# Altium footprint library WePcbLib.PcbLib: 177 footprints (part 9 of 12)
Each footprint in its own frame and in the unit in brackets; x right, y up, seen from the top. Pads: shape width x height; smd on the part's side, far side on the other; paste and mask are expansions set on the pad; w line width, h text height; cw(c..) or ccw(c..) is an arc to the next point about the centre after c.
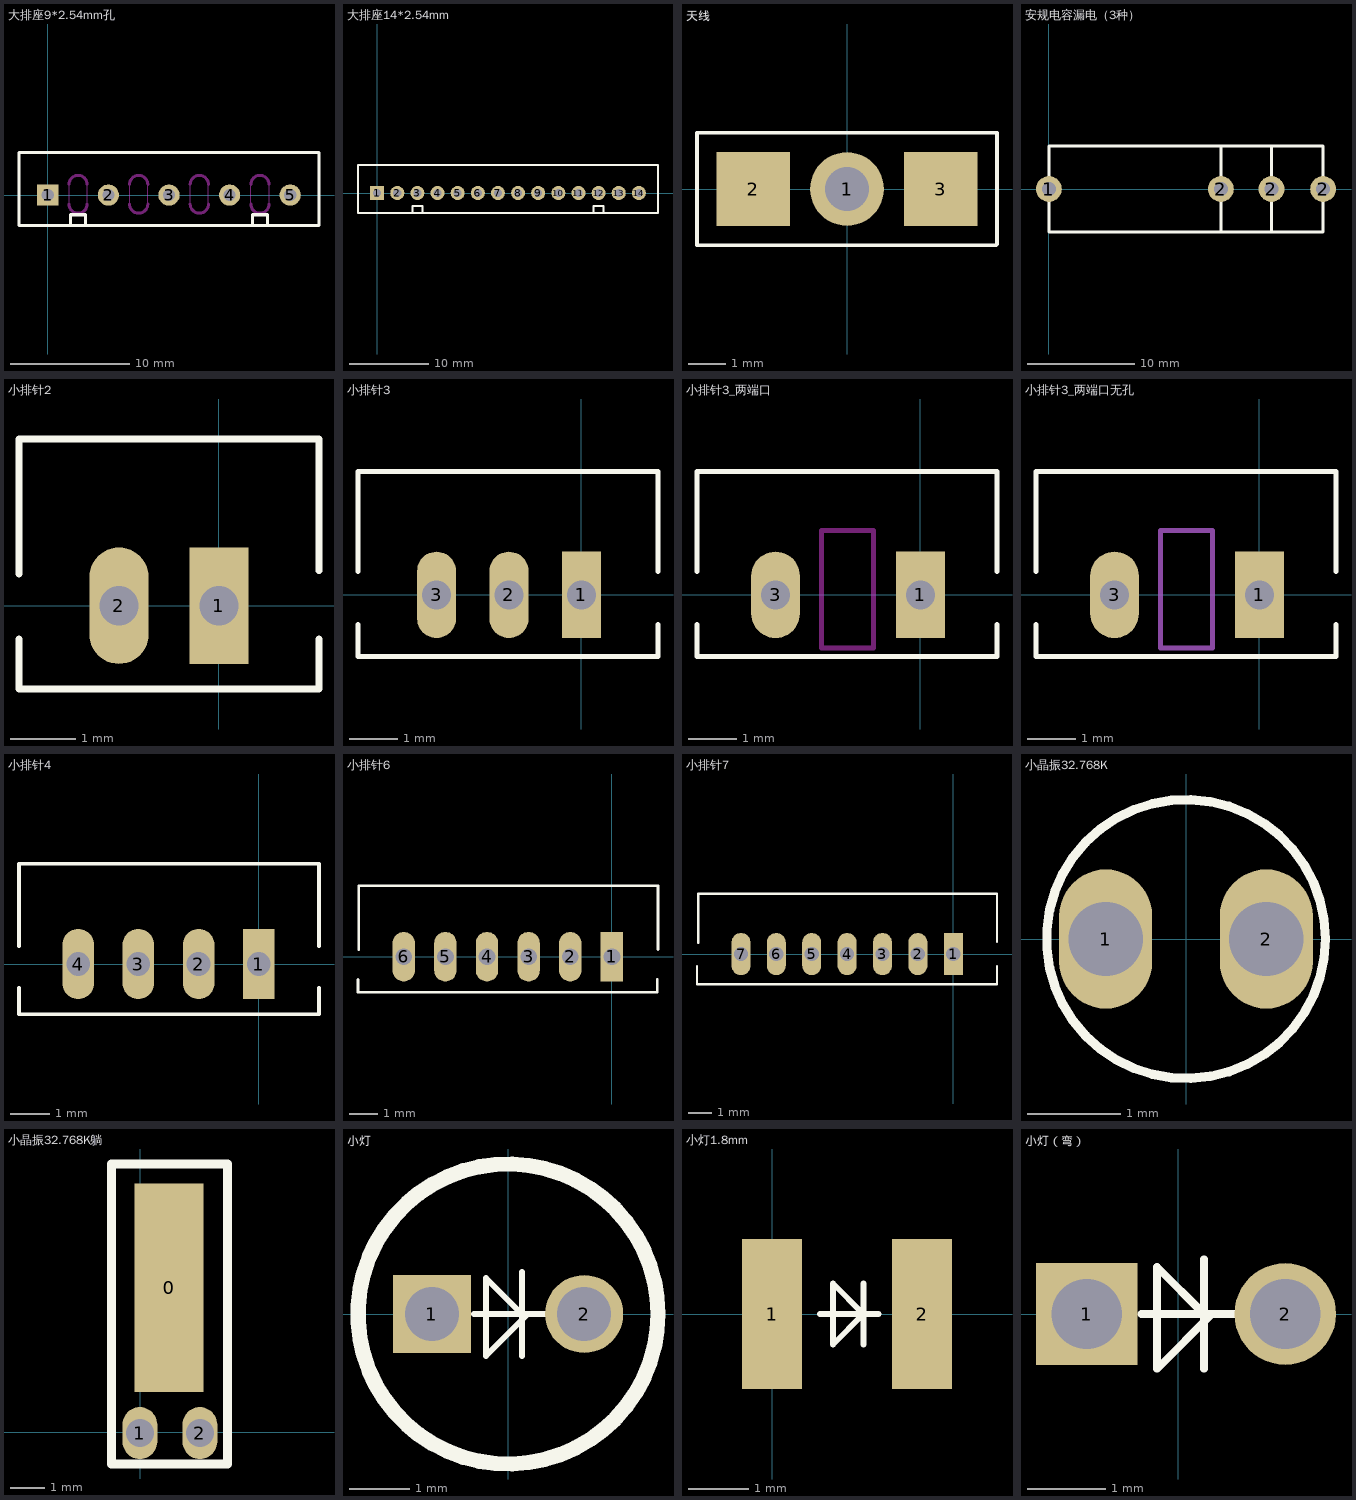
[diagram p8: the footprints below, top view; thin cyan lines are the x and y axes]

## 大排座9*2.54mm孔 [mil]
pads (5):
  rect 70x70 hole 40: 1(0,0)
  round 70 hole 40: 2(200,0) 3(400,0) 4(600,0) 5(800,0)
Top Overlay:
  lines w10: 75,-95 75,-75 75,-65 125,-65 125,-95 ; 675,-100 675,-65 725,-65 725,-100 ; -95,-100 895,-100 895,140 -95,140 -95,-100
Keep-Out Layer:
  lines w4: 70,-30 70,35 ; 130,-30 130,35 ; 270,-30 270,35 ; 330,-30 330,35 ; 470,-30 470,35 ; 530,-30 530,35 ; 670,-30 670,35 ; 730,-30 730,35
  lines w10: 70,-30 ccw(c100,-30) 130,-30 ; 70,35 cw(c100,35) 130,35 ; 270,-30 ccw(c300,-30) 330,-30 ; 270,35 cw(c300,35) 330,35 ; 470,-30 ccw(c500,-30) 530,-30 ; 470,35 cw(c500,35) 530,35 ; 670,-30 ccw(c700,-30) 730,-30 ; 670,35 cw(c700,35) 730,35

## 大排座14*2.54mm [mil]
pads (14):
  rect 70x70 hole 40: 1(0,0)
  round 70 hole 40: 2(100,0) 3(200,0) 4(300,0) 5(400,0) 6(500,0) 7(600,0) 8(700,0) 9(800,0) 10(900,0) 11(1000,0) 12(1100,0) 13(1200,0) 14(1300,0)
Top Overlay:
  lines w10: 175,-100 175,-65 225,-65 225,-100 ; 1075,-100 1075,-65 1125,-65 1125,-100 ; -95,-100 1395,-100 1395,140 -95,140 -95,-100

## 天线 [mm]
pads (3):
  round 2 hole 1.2: 1(0,0)
  rect 2x2 smd: 2(-2.54,0) 3(2.54,0)
Top Overlay:
  lines w0.1: -4.064,-1.524 4.039,-1.524 4.064,-1.499 4.064,1.524 -4.064,1.524 -4.064,-1.524

## 安规电容漏电（3种） [mm]
pads (4):
  round 2.4 hole 1.3: 1(0,0) 2(16,0) 2(20.7,0) 2(25.5,0)
Top Overlay:
  lines w0.254: 16,4 16,-3.998 16.002,-4 ; 20.7,-3.999 20.7,4 ; 25.5,-4 0,-4 0,4 25.5,4 25.5,-3.998

## 小排针2 [mm]
pads (2):
  rect 0.9x1.778 hole 0.6: 1(0,0)
  oval 0.9x1.778 hole 0.6: 2(-1.524,0)
Top Overlay:
  lines w0.1: -3.048,-0.508 -3.048,-1.27 1.524,-1.27 1.524,-0.508 ; -3.048,0.483 -3.048,2.54 1.524,2.54 1.524,0.533

## 小排针3 [mm]
pads (3):
  rect 0.8x1.778 hole 0.6: 1(0,0)
  oval 0.8x1.778 hole 0.6: 2(-1.491,0) 3(-2.982,0)
Top Overlay:
  lines w0.1: -4.597,-0.61 -4.597,-1.27 1.575,-1.27 1.575,-0.61 ; -4.597,0.483 -4.597,2.54 1.575,2.54 1.575,0.483

## 小排针3_两端口 [mm]
pads (2):
  rect 1x1.778 hole 0.6: 1(0,0)
  oval 1x1.778 hole 0.6: 3(-2.982,0)
Top Overlay:
  lines w0.1: -4.597,-0.61 -4.597,-1.27 1.575,-1.27 1.575,-0.61 ; -4.597,0.483 -4.597,2.54 1.575,2.54 1.575,0.483
Keep-Out Layer:
  lines w0.102: -2.032,-1.092 -0.965,-1.092 -0.965,1.321 -2.032,1.321 -2.032,-1.092

## 小排针3_两端口无孔 [mm]
pads (2):
  rect 1x1.778 hole 0.6: 1(0,0)
  oval 1x1.778 hole 0.6: 3(-2.982,0)
Top Overlay:
  lines w0.1: -4.597,-0.61 -4.597,-1.27 1.575,-1.27 1.575,-0.61 ; -4.597,0.483 -4.597,2.54 1.575,2.54 1.575,0.483
Mechanical 15:
  lines w0.102: -2.032,-1.092 -2.032,1.321 -0.965,1.321 -0.965,-1.092 -2.032,-1.092

## 小排针4 [mm]
pads (4):
  rect 0.8x1.778 hole 0.6: 1(0,0)
  oval 0.8x1.778 hole 0.6: 2(-1.524,0) 3(-3.048,0) 4(-4.572,0)
Top Overlay:
  lines w0.1: -6.071,-0.61 -6.071,-1.27 1.524,-1.27 1.524,-0.61 ; -6.071,0.457 -6.071,2.54 1.524,2.54 1.524,0.457

## 小排针6 [mm]
pads (6):
  rect 0.8x1.778 hole 0.6: 1(0,0)
  oval 0.8x1.778 hole 0.6: 2(-1.491,0) 3(-2.982,0) 4(-4.473,0) 5(-5.963,0) 6(-7.454,0)
Top Overlay:
  lines w0.1: -9.093,-0.813 -9.093,-1.27 1.626,-1.27 1.626,-0.813 ; -9.068,0.254 -9.068,2.54 1.651,2.54 1.651,0.254

## 小排针7 [mm]
pads (7):
  rect 0.8x1.778 hole 0.6: 1(0,0)
  oval 0.8x1.778 hole 0.6: 2(-1.491,0) 3(-2.982,0) 4(-4.473,0) 5(-5.963,0) 6(-7.454,0) 7(-8.941,0)
Top Overlay:
  lines w0.1: -10.795,-0.508 -10.795,-1.27 1.843,-1.27 1.843,-0.508 ; -10.744,0.483 -10.744,2.54 1.843,2.54 1.843,0.508

## 小晶振32.768K [mm]
pads (2):
  oval 1x1.5 hole 0.8: 1(-0.864,0) 2(0.864,0)
Top Overlay:
  circle w0.1: c0,0 r1.5

## 小晶振32.768K躺 [mm]
pads (3):
  rect 2x6 smd: 0(0.831,4.165)
  oval 1x1.5 hole 0.8: 1(-0.007,-0.025) 2(1.721,-0.025)
Top Overlay:
  lines w0.254: -0.819,-0.914 2.515,-0.914 2.515,7.722 -0.819,7.722 -0.819,-0.914

## 小灯 [mm]
height 4.6
pads (2):
  rect 1.3x1.3 hole 0.9: 1(-1.27,0)
  round 1.3 hole 0.9: 2(1.27,0)
Top Overlay:
  circle w0.254: c0,0 r2.5
  lines w0.1: -0.57,0 0.63,0 ; 0.23,-0.7 0.23,0.7 ; 0.23,0 -0.37,0.6 -0.37,-0.7 0.33,0

## 小灯1.8mm [mm]
pads (2):
  rect 1x2.5 smd: 1(0,0) 2(2.5,0)
Top Overlay:
  lines w0.1: 0.8,0 1.778,0 ; 1.524,-0.508 1.524,0.508 ; 1.016,-0.508 1.016,0.508 1.524,0 1.016,-0.508

## 小灯（弯） [mm]
pads (2):
  rect 1.3x1.3 hole 0.9: 1(-1.17,0)
  round 1.3 hole 0.9: 2(1.37,0)
Top Overlay:
  lines w0.1: -0.47,0 0.73,0 ; 0.33,-0.7 0.33,0.7 ; 0.33,0 -0.27,0.6 -0.27,-0.7 0.43,0